# EAGLE library part DF13-4P-S (library con-Hirose)
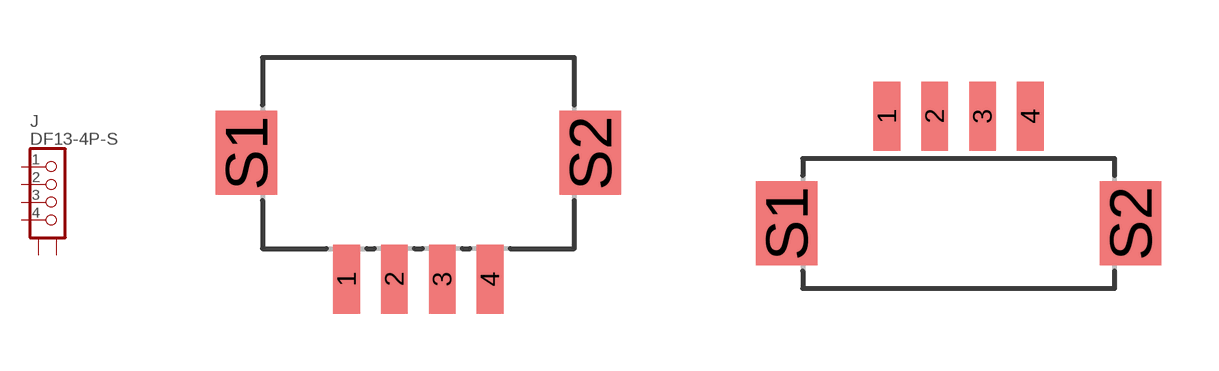
[diagram p5: symbol with the pads of DF13A-4P-1.25H; footprints DF13A-4P-1.25H, DF13C-4P-1.25V]

Designator prefix J

## DF13-4P-SH  [DF13A-4P-1.25H]
1  1  pas
2  2  pas
3  3  pas
4  4  pas
S1  S1  pas
S2  S2  pas

## DF13-4P-SV  [DF13C-4P-1.25V]
Pads as for DF13A-4P-1.25H

## Footprint DF13A-4P-1.25H (pad centres in mm)
smd 0.7 x 1.8: 1 -1.875,-3.3; 2 -0.625,-3.3; 3 0.625,-3.3; 4 1.875,-3.3
smd 1.6 x 2.2: S1 -4.5,0; S2 4.5,0

## Footprint DF13C-4P-1.25V (pad centres in mm)
smd 0.7 x 1.8: 1 -1.875,2.8; 2 -0.625,2.8; 3 0.625,2.8; 4 1.875,2.8
smd 1.6 x 2.2: S1 -4.5,0; S2 4.5,0